# Altium footprint library PCBlib1.PcbLib: 21 footprints (part 1 of 2)
Each footprint in its own frame and in the unit in brackets; x right, y up, seen from the top. Pads: shape width x height; smd on the part's side, far side on the other; paste and mask are expansions set on the pad; w line width, h text height; cw(c..) or ccw(c..) is an arc to the next point about the centre after c.
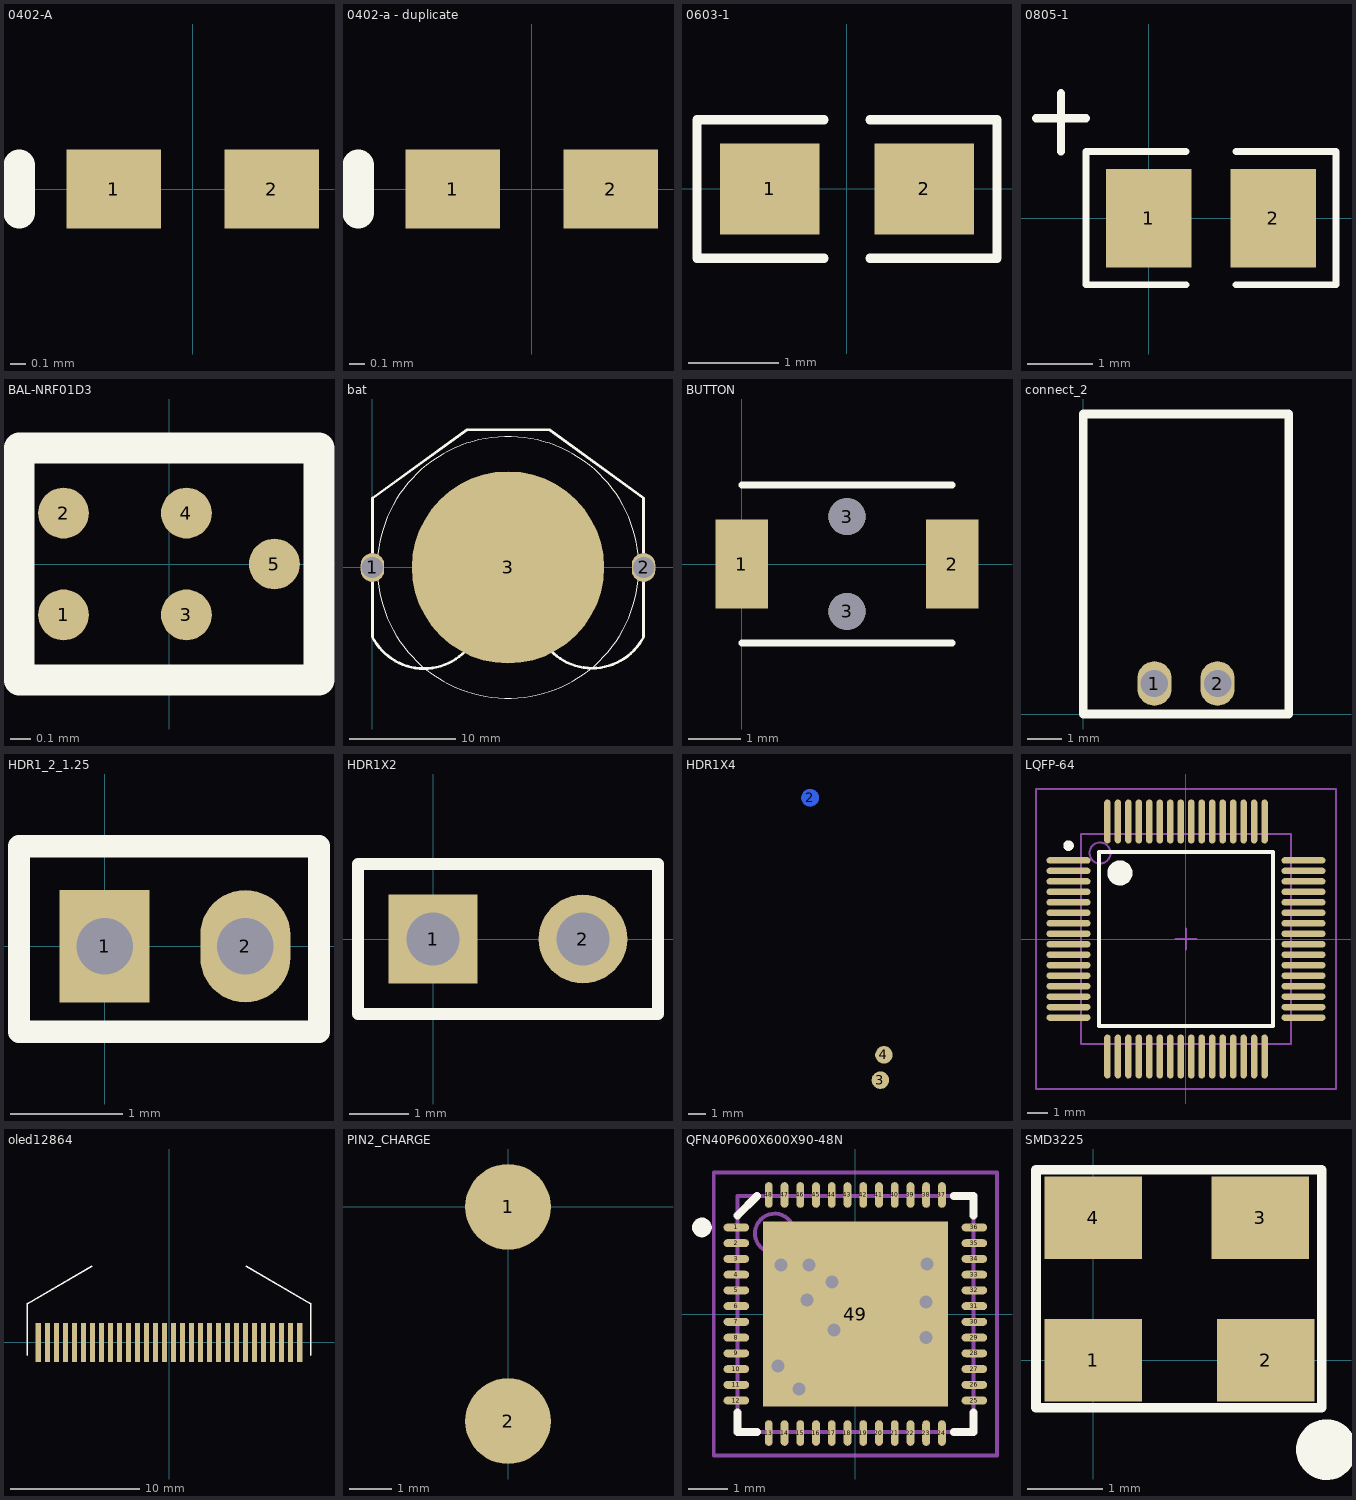
[diagram p0: the footprints below, top view; thin cyan lines are the x and y axes]

## 0402-A [mm] "Chip Inductor; Body 1 x 0.5 mm (LxW typ)"
height 0.55
pads (2):
  rect 0.6x0.5 smd: 1(-0.5,0) 2(0.5,0)
Top Overlay:
  lines w0.2: -1.1,-0.15 -1.1,0.15

## 0402-a - duplicate [mm]
pads (2):
  rect 0.6x0.5 smd: 1(-0.5,0) 2(0.5,0)
Top Overlay:
  lines w0.2: -1.1,-0.15 -1.1,0.15

## 0603-1 [mm] "贴片带丝印"
height 0.6
pads (2):
  rect 1.1x1 smd: 1(-0.85,0) 2(0.85,0)
Top Overlay:
  lines w0.1: -0.254,-0.762 -1.651,-0.762 -1.651,0.762 -0.254,0.762 ; 0.254,-0.762 1.651,-0.762 1.651,0.762 0.254,0.762
3D body: height 1, standoff 0, extent -1.143,-0.381 1.143,0.381

## 0805-1 [mm]
height 0.55
pads (2):
  rect 1.3x1.5 smd: 1(0,0) 2(1.9,0)
Top Overlay:
  lines w0.1: 0.569,-1.016 -0.955,-1.016 -0.955,1.016 0.569,1.016 ; 1.331,-1.016 2.855,-1.016 2.855,1.016 1.331,1.016
  lines w0.127: -1.717,1.524 -0.955,1.524 ; -1.336,1.016 -1.336,1.905

## BAL-NRF01D3 [mm] "ST BAL-NRF01D3"
height 0.55
pads (5):
  round 0.25 smd: 1(-0.519,-0.25) 2(-0.519,0.25) 3(0.085,-0.25) 4(0.085,0.25) 5(0.518,0)
Top Overlay:
  lines w0.152: -0.737,-0.57 -0.737,0.57 0.737,0.57 0.737,-0.57 -0.737,-0.57

## bat [mm]
pads (3):
  oval 2.2x2.7 hole 2: 1(0,0) 2(25.4,0)
  round 18 smd: 3(12.7,0)
Top Overlay:
  circle w0.025: c12.7,0 r12.25
  lines w0.254: 9.614,-6.522 cw(c12.7,-7.793) 15.764,-6.469 ccw(c20.59,-4.033) 25.4,-6.5 25.4,0 25.4,6.5 16.577,12.9 ; 9.636,-6.531 cw(c4.826,-4.064) 0,-6.5 0,0 0,6.5 0.023,6.5 8.846,12.9 12.646,12.9 16.446,12.9

## BUTTON [mm]
height 0.55
pads (4):
  rect 1x1.7 smd: 1(0,0) 2(4,0)
  round 0.7 hole 0.7: 3(2,-0.9) 3(2,0.9)
Top Overlay:
  lines w0.127: 0,-1.5 2,-1.5 4,-1.5 ; 0,1.5 2,1.5 4,1.5

## connect_2 [mm]
pads (2):
  oval 1x1.3 hole 0.8: 1(2.08,0.889) 2(3.92,0.889)
Top Overlay:
  lines w0.254: 0,0 0,8.75 6,8.75 6,0 3,0 0,0

## HDR1_2_1.25 [mm]
pads (2):
  rect 0.8x1 hole 0.5: 1(0,0)
  oval 0.8x1 hole 0.5: 2(1.25,0)
Top Overlay:
  lines w0.2: -0.762,-0.762 1.905,-0.762 1.905,0.889 -0.762,0.889 -0.762,-0.762

## HDR1X2 [mm] "Connector; Header; 2 Position"
height 0.55
pads (2):
  rect 1.5x1.5 hole 0.9: 1(0,0)
  round 1.5 hole 0.9: 2(2.54,0)
Top Overlay:
  lines w0.2: -1.27,-1.27 -1.27,1.27 3.81,1.27 3.81,-1.27 -1.27,-1.27

## HDR1X4 [mm] "Connector; Header; 4 Position"
height 0.55
pads (3):
  round 1 smd far side: 2(14.009,20.814)
  round 1 smd: 3(18.009,4.724) 4(18.212,6.172)

## LQFP-64 [mm] "LQFP64"
height 1.5
pads (64):
  oval 2.1x0.3 smd: 1(-5.6,3.75) 2(-5.6,3.25) 3(-5.6,2.75) 4(-5.6,2.25) 5(-5.6,1.75) 6(-5.6,1.25) 7(-5.6,0.75) 8(-5.6,0.25) 9(-5.6,-0.25) 10(-5.6,-0.75) 11(-5.6,-1.25) 12(-5.6,-1.75) 13(-5.6,-2.25) 14(-5.6,-2.75) 15(-5.6,-3.25) 16(-5.6,-3.75) 33(5.6,-3.75) 34(5.6,-3.25) 35(5.6,-2.75) 36(5.6,-2.25) 37(5.6,-1.75) 38(5.6,-1.25) 39(5.6,-0.75) 40(5.6,-0.25) 41(5.6,0.25) 42(5.6,0.75) 43(5.6,1.25) 44(5.6,1.75) 45(5.6,2.25) 46(5.6,2.75) 47(5.6,3.25) 48(5.6,3.75)
  oval 0.3x2.1 smd: 17(-3.75,-5.6) 18(-3.25,-5.6) 19(-2.75,-5.6) 20(-2.25,-5.6) 21(-1.75,-5.6) 22(-1.25,-5.6) 23(-0.75,-5.6) 24(-0.25,-5.6) 25(0.25,-5.6) 26(0.75,-5.6) 27(1.25,-5.6) 28(1.75,-5.6) 29(2.25,-5.6) 30(2.75,-5.6) 31(3.25,-5.6) 32(3.75,-5.6) 49(3.75,5.6) 50(3.25,5.6) 51(2.75,5.6) 52(2.25,5.6) 53(1.75,5.6) 54(1.25,5.6) 55(0.75,5.6) 56(0.25,5.6) 57(-0.25,5.6) 58(-0.75,5.6) 59(-1.25,5.6) 60(-1.75,5.6) 61(-2.25,5.6) 62(-2.75,5.6) 63(-3.25,5.6) 64(-3.75,5.6)
Top Overlay:
  circle w0.25: c-5.6,4.45 r0.125
  circle w0.6: c-3.15,3.15 r0.3
  lines w0.2: -4.15,-4.15 -4.15,4.15 4.15,4.15 4.15,-4.15 -4.15,-4.15
Mechanical 13:
  circle w0.1: c-4.1,4.1 r0.5
  lines w0.1: -5,-5 -5,5 5,5 5,-5 -5,-5
Mechanical 15:
  lines w0.1: -0.5,0 0.5,0 ; 0,-0.5 0,0.5 ; -7.15,-7.15 -7.15,7.15 7.15,7.15 7.15,-7.15 -7.15,-7.15
3D body: height 1.6, standoff 0, extent -5,-5 5,5

## oled12864 [mm]
height 0.55
pads (30):
  rect 0.4x3 smd: 1(-10.15,0) 2(-9.45,0) 3(-8.75,0) 4(-8.05,0) 5(-7.35,0) 6(-6.65,0) 7(-5.95,0) 8(-5.25,0) 9(-4.55,0) 10(-3.85,0) 11(-3.15,0) 12(-2.45,0) 13(-1.75,0) 14(-1.05,0) 15(-0.35,0) 16(0.35,0) 17(1.05,0) 18(1.75,0) 19(2.45,0) 20(3.15,0) 21(3.85,0) 22(4.55,0) 23(5.25,0) 24(5.95,0) 25(6.65,0) 26(7.35,0) 27(8.05,0) 28(8.75,0) 29(9.45,0) 30(10.15,0)
Top Overlay:
  lines w0.127: -11,-0.977 -11,3.023 -6,5.923 ; 6,5.923 11,3.023 ; 11,-0.977 11,3.023 ; 11,2.924 11,3.023

## PIN2_CHARGE [mm]
height 0.55
pads (2):
  round 2 smd: 1(0,0) 2(0,-5)

## QFN40P600X600X90-48N [mm] "QFN, 48-Leads, Body 6,0x6,0mm (max), Pitch 0,40mm, IPC Medium Density"
height 0.9
pads (49):
  oval 0.65x0.2 smd: 1(-3.025,2.2) 2(-3.025,1.8) 3(-3.025,1.4) 4(-3.025,1) 5(-3.025,0.6) 6(-3.025,0.2) 7(-3.025,-0.2) 8(-3.025,-0.6) 9(-3.025,-1) 10(-3.025,-1.4) 11(-3.025,-1.8) 12(-3.025,-2.2) 25(3.025,-2.2) 26(3.025,-1.8) 27(3.025,-1.4) 28(3.025,-1) 29(3.025,-0.6) 30(3.025,-0.2) 31(3.025,0.2) 32(3.025,0.6) 33(3.025,1) 34(3.025,1.4) 35(3.025,1.8) 36(3.025,2.2)
  oval 0.2x0.65 smd: 13(-2.2,-3.025) 14(-1.8,-3.025) 15(-1.4,-3.025) 16(-1,-3.025) 17(-0.6,-3.025) 18(-0.2,-3.025) 19(0.2,-3.025) 20(0.6,-3.025) 21(1,-3.025) 22(1.4,-3.025) 23(1.8,-3.025) 24(2.2,-3.025) 37(2.2,3.025) 38(1.8,3.025) 39(1.4,3.025) 40(1,3.025) 41(0.6,3.025) 42(0.2,3.025) 43(-0.2,3.025) 44(-0.6,3.025) 45(-1,3.025) 46(-1.4,3.025) 47(-1.8,3.025) 48(-2.2,3.025)
  rect 4.7x4.7 smd: 49(0,0)
via 1.8,-0.6 diameter 0.66 hole 0.33
via 1.79,0.306 diameter 0.66 hole 0.33
via -1.969,-1.319 diameter 0.66 hole 0.33
via -0.597,0.814 diameter 0.66 hole 0.33
via -1.435,-1.904 diameter 0.66 hole 0.33
via -1.232,0.357 diameter 0.66 hole 0.33
via -1.181,1.246 diameter 0.66 hole 0.33
via 1.816,1.271 diameter 0.66 hole 0.33
via -0.546,-0.405 diameter 0.66 hole 0.33
via -1.893,1.246 diameter 0.66 hole 0.33
Top Overlay:
  circle w0.25: c-3.9,2.2 r0.125
  lines w0.2: -3,-2.5 -3,-3 -2.5,-3 ; -3,2.5 -2.5,3 ; 2.5,-3 3,-3 3,-2.5 ; 2.5,3 3,3 3,2.5
Mechanical 13:
  circle w0.1: c-2.05,2.05 r0.5
  lines w0.1: -3,-3 3,-3 3,3 -3,3 -3,-3
Mechanical 15:
  lines w0.1: -0.5,0 0.5,0 ; 0,-0.5 0,0.5 ; -3.6,-3.6 3.6,-3.6 3.6,3.6 -3.6,3.6 -3.6,-3.6
3D body: height 0.9, standoff 0, extent -3,-3 3,3

## SMD3225 [mm]
height 0.55
pads (4):
  rect 1.3x1.1 smd: 1(0,0) 2(2.3,0) 3(2.23,1.9) 4(0,1.9)
Top Overlay:
  circle w0.554: c3.112,-1.195 r0.127
  lines w0.127: -0.762,-0.635 -0.762,2.54 3.048,2.54 3.048,-0.635 -0.762,-0.635